# EAGLE library part STM32F334C8Y (library STM32F3xx)
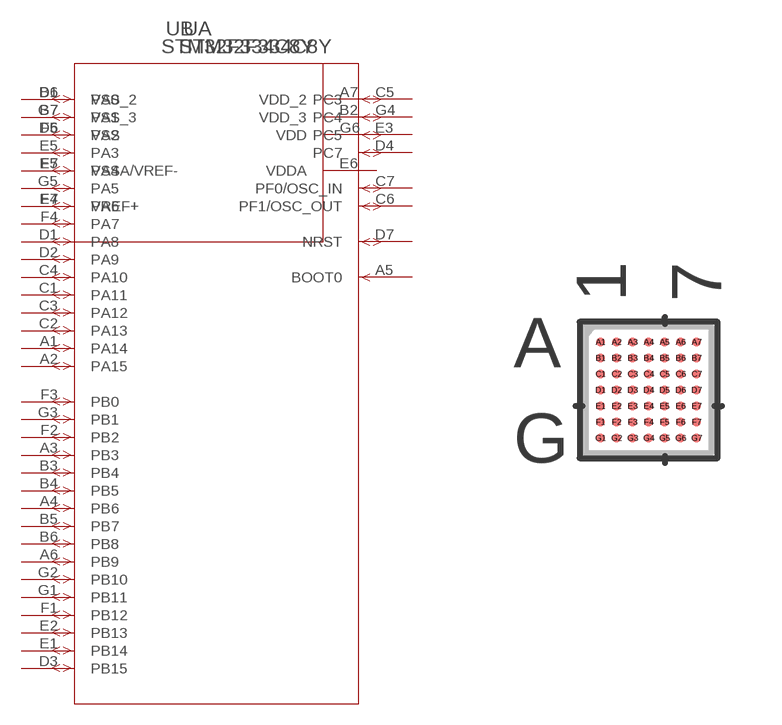
[diagram p19: symbol with the pads of WLCSP49; footprint WLCSP49]

Designator prefix U; gates A=STM32F334C8Y B=STM32F334C8Y_00

## STM32F334C8Y (COPYRIGHT: Copyright C 2016 Accelerated Designs. All rights reserved; MANUFACTURER_PART_NUMBER: stm32f334c8y; VENDOR: STMicroelectronics)  [WLCSP49]
A1  A:PA14
A2  A:PA15
A3  A:PB3
A4  A:PB6
A5  A:BOOT0  in
A6  A:PB9
A7  B:VDD_2  pwr
B1  B:VSS_2  pwr
B2  B:VDD_3  pwr
B3  A:PB4
B4  A:PB5
B5  A:PB7
B6  A:PB8
B7  B:VSS_3  pwr
C1  A:PA11
C2  A:PA13
C3  A:PA12
C4  A:PA10
C5  A:PC3
C6  A:PF1/OSC_OUT
C7  A:PF0/OSC_IN
D1  A:PA8
D2  A:PA9
D3  A:PB15
D4  A:PC7
D5  A:PA2
D6  A:PA0
D7  A:NRST
E1  A:PB14
E2  A:PB13
E3  A:PC5
E4  A:PA6
E5  A:PA3
E6  B:VDDA  pwr
E7  B:VSSA/VREF-  pwr
F1  A:PB12
F2  A:PB2
F3  A:PB0
F4  A:PA7
F5  A:PA4
F6  B:VSS  pwr
F7  B:VREF+  pwr
G1  A:PB11
G2  A:PB10
G3  A:PB1
G4  A:PC4
G5  A:PA5
G6  B:VDD  pwr
G7  A:PA1

## Footprint WLCSP49 (pad centres in mm)
smd 0.229 x 0.229: A1 -1.2,1.2; A2 -0.8,1.2; A3 -0.4,1.2; A4 0,1.2; A5 0.4,1.2; A6 0.8,1.2; A7 1.2,1.2; B1 -1.2,0.8; B2 -0.8,0.8; B3 -0.4,0.8; B4 0,0.8; B5 0.4,0.8; B6 0.8,0.8; B7 1.2,0.8; C1 -1.2,0.4; C2 -0.8,0.4; C3 -0.4,0.4; C4 0,0.4; C5 0.4,0.4; C6 0.8,0.4; C7 1.2,0.4; D1 -1.2,0; D2 -0.8,0; D3 -0.4,0; D4 0,0; D5 0.4,0; D6 0.8,0; D7 1.2,0; E1 -1.2,-0.4; E2 -0.8,-0.4; E3 -0.4,-0.4; E4 0,-0.4; E5 0.4,-0.4; E6 0.8,-0.4; E7 1.2,-0.4; F1 -1.2,-0.8; F2 -0.8,-0.8; F3 -0.4,-0.8; F4 0,-0.8; F5 0.4,-0.8; F6 0.8,-0.8; F7 1.2,-0.8; G1 -1.2,-1.2; G2 -0.8,-1.2; G3 -0.4,-1.2; G4 0,-1.2; G5 0.4,-1.2; G6 0.8,-1.2; G7 1.2,-1.2